# Altium footprint library Package_CSP.PcbLib: 127 footprints (part 1 of 8)
Each footprint in its own frame and in the unit in brackets; x right, y up, seen from the top. Pads: shape width x height; smd on the part's side, far side on the other; paste and mask are expansions set on the pad; w line width, h text height; cw(c..) or ccw(c..) is an arc to the next point about the centre after c.
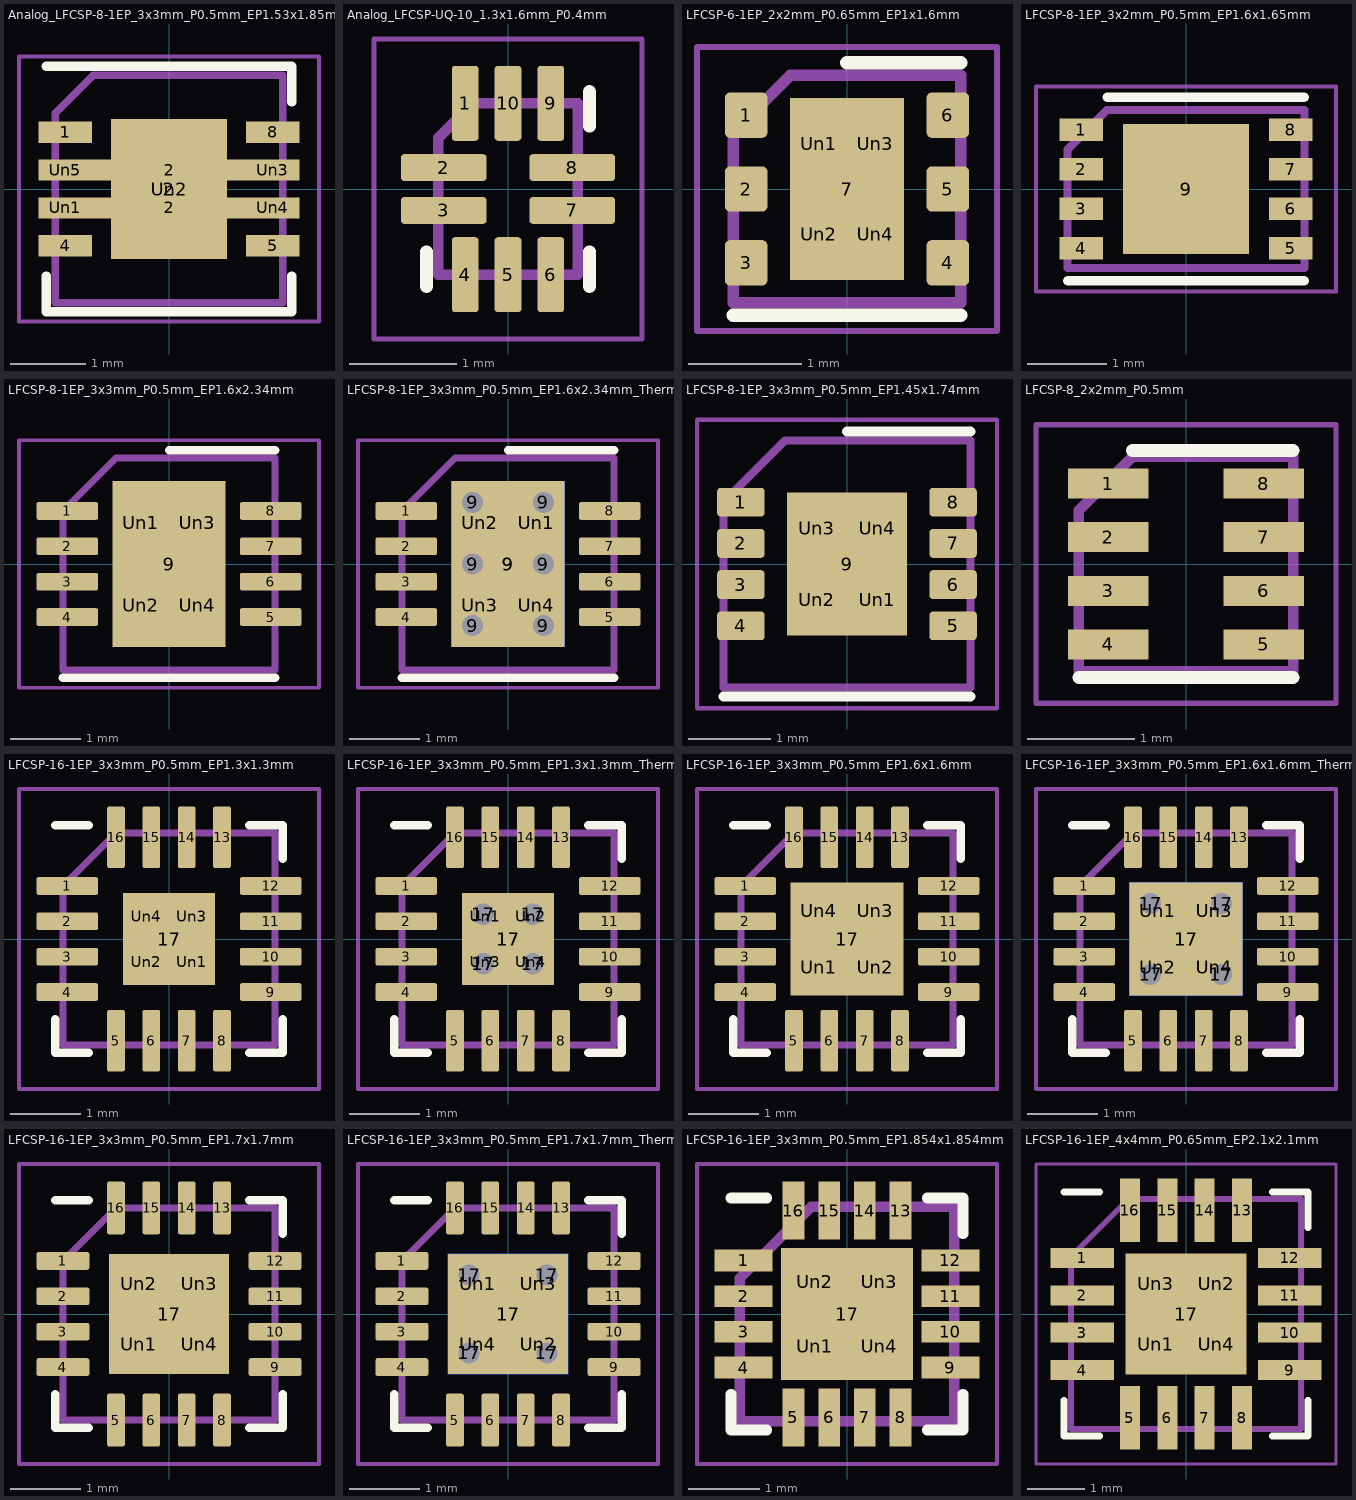
[diagram p0: the footprints below, top view; thin cyan lines are the x and y axes]

## Analog_LFCSP-8-1EP_3x3mm_P0.5mm_EP1.53x1.85mm [mm]
pads (12):
  rect 0.71x0.28 smd: 1(-1.37,0.75) 4(-1.37,-0.75) 5(1.37,-0.75) 8(1.37,0.75)
  rect 3.45x0.28 smd: 2(0,-0.25) 2(0,0.25)
  rect 1.53x1.85 smd: 2(0,0)
  rect 0.71x0.28 on Top Paste: Un1(-1.37,-0.25) Un3(1.37,0.25) Un4(1.37,-0.25) Un5(-1.37,0.25)
  rect 1.2x1.55 on Top Paste: Un2(0,0)
F.SilkS:
  lines w0.12: -1.62,-1.15 -1.62,-1.62 1.62,-1.62 1.62,-1.15 ; -1.62,1.62 1.62,1.62 1.62,1.15
F.CrtYd:
  lines w0.05: -1.98,-1.75 -1.98,1.75 1.98,1.75 1.98,-1.75 -1.98,-1.75
F.Fab:
  lines w0.1: -1.5,-1.5 -1.5,1 -1,1.5 1.5,1.5 1.5,-1.5 -1.5,-1.5
  text "'.Designator'" at -2.878,-0.633 h0.7

## Analog_LFCSP-UQ-10_1.3x1.6mm_P0.4mm [mm]
pads (10):
  rrect25% 0.25x0.7 smd: 1(-0.4,0.8) 4(-0.4,-0.8) 5(0,-0.8) 6(0.4,-0.8) 9(0.4,0.8) 10(0,0.8)
  rrect25% 0.8x0.25 smd: 2(-0.6,0.2) 3(-0.6,-0.2) 7(0.6,-0.2) 8(0.6,0.2)
F.SilkS:
  lines w0.12: -0.76,-0.91 -0.76,-0.585 ; 0.76,-0.91 0.76,-0.585 ; 0.76,0.585 0.76,0.91
F.CrtYd:
  lines w0.05: -1.25,-1.4 -1.25,1.4 1.25,1.4 1.25,-1.4 -1.25,-1.4
F.Fab:
  lines w0.1: -0.65,-0.8 0.65,-0.8 0.65,0.8 -0.325,0.8 -0.65,0.475 -0.65,-0.8
  text "'.Designator'" at 0.336,-1.619 h0.4

## LFCSP-6-1EP_2x2mm_P0.65mm_EP1x1.6mm [mm]
pads (11):
  rrect25% 0.375x0.4 smd: 1(-0.887,0.65) 2(-0.887,0) 3(-0.887,-0.65) 4(0.887,-0.65) 5(0.887,0) 6(0.887,0.65)
  rect 1x1.6 smd: 7(0,0)
  rrect25% 0.4x0.64 on Top Paste: Un1(-0.25,0.4) Un2(-0.25,-0.4) Un3(0.25,0.4) Un4(0.25,-0.4)
F.SilkS:
  lines w0.12: -1,-1.11 1,-1.11 ; 0,1.11 1,1.11
F.CrtYd:
  lines w0.05: -1.32,-1.25 -1.32,1.25 1.32,1.25 1.32,-1.25 -1.32,-1.25
F.Fab:
  lines w0.1: -1,-1 1,-1 1,1 -0.5,1 -1,0.5 -1,-1
  text "'.Designator'" at -2.028,-0.425 h0.5

## LFCSP-8-1EP_3x2mm_P0.5mm_EP1.6x1.65mm [mm]
pads (9):
  rect 0.55x0.28 smd: 1(-1.325,0.75) 2(-1.325,0.25) 3(-1.325,-0.25) 4(-1.325,-0.75) 5(1.325,-0.75) 6(1.325,-0.25) 7(1.325,0.25) 8(1.325,0.75)
  rect 1.6x1.65 smd: 9(0,0)
F.SilkS:
  lines w0.12: -1.5,-1.16 1.5,-1.16 ; -1,1.16 1.5,1.16
F.CrtYd:
  lines w0.05: -1.9,-1.3 1.9,-1.3 1.9,1.3 -1.9,1.3 -1.9,-1.3
F.Fab:
  lines w0.1: -1.5,-1 -1.5,0.5 -1,1 1.5,1 1.5,-1 -1.5,-1
  text "'.Designator'" at -2.63,-0.546 h0.65

## LFCSP-8-1EP_3x3mm_P0.5mm_EP1.6x2.34mm [mm]
pads (13):
  rrect25% 0.875x0.25 smd: 1(-1.438,0.75) 2(-1.438,0.25) 3(-1.438,-0.25) 4(-1.438,-0.75) 5(1.438,-0.75) 6(1.438,-0.25) 7(1.438,0.25) 8(1.438,0.75)
  rect 1.6x2.34 smd: 9(0,0)
  rrect25% 0.64x0.94 on Top Paste: Un1(-0.4,0.585) Un2(-0.4,-0.585) Un3(0.4,0.585) Un4(0.4,-0.585)
F.SilkS:
  lines w0.12: -1.5,-1.61 1.5,-1.61 ; 0,1.61 1.5,1.61
F.CrtYd:
  lines w0.05: -2.12,-1.75 2.12,-1.75 2.12,1.75 -2.12,1.75 -2.12,-1.75
F.Fab:
  lines w0.1: -1.5,-1.5 1.5,-1.5 1.5,1.5 -0.75,1.5 -1.5,0.75 -1.5,-1.5
  text "'.Designator'" at -3.033,-0.628 h0.75

## LFCSP-8-1EP_3x3mm_P0.5mm_EP1.6x2.34mm_ThermalVias [mm]
pads (20):
  rrect25% 0.875x0.25 smd: 1(-1.438,0.75) 2(-1.438,0.25) 3(-1.438,-0.25) 4(-1.438,-0.75) 5(1.438,-0.75) 6(1.438,-0.25) 7(1.438,0.25) 8(1.438,0.75)
  round 0.6 hole 0.3: 9(-0.5,-0.87) 9(-0.5,0) 9(-0.5,0.87) 9(0.5,-0.87) 9(0.5,0) 9(0.5,0.87)
  rect 1.6x2.34 smd far side: 9(0,0)
  rect 1.6x2.34 smd: 9(0,0)
  rrect25% 0.69x1.01 on Top Paste: Un1(0.4,0.585) Un2(-0.4,0.585) Un3(-0.4,-0.585) Un4(0.4,-0.585)
F.SilkS:
  lines w0.12: -1.5,-1.61 1.5,-1.61 ; 0,1.61 1.5,1.61
F.CrtYd:
  lines w0.05: -2.12,-1.75 -2.12,1.75 2.12,1.75 2.12,-1.75 -2.12,-1.75
F.Fab:
  lines w0.1: -1.5,-1.5 -1.5,0.75 -0.75,1.5 1.5,1.5 1.5,-1.5 -1.5,-1.5
  text "'.Designator'" at -3.033,-0.628 h0.75

## LFCSP-8-1EP_3x3mm_P0.5mm_EP1.45x1.74mm [mm]
pads (13):
  rrect25% 0.575x0.35 smd: 1(-1.288,0.75) 2(-1.288,0.25) 3(-1.288,-0.25) 4(-1.288,-0.75) 5(1.288,-0.75) 6(1.288,-0.25) 7(1.288,0.25) 8(1.288,0.75)
  rect 1.45x1.74 smd: 9(0,0)
  rrect25% 0.58x0.7 on Top Paste: Un1(0.365,-0.435) Un2(-0.365,-0.435) Un3(-0.365,0.435) Un4(0.365,0.435)
F.SilkS:
  lines w0.12: -1.5,-1.61 1.5,-1.61 ; 0,1.61 1.5,1.61
F.CrtYd:
  lines w0.05: -1.82,-1.75 -1.82,1.75 1.82,1.75 1.82,-1.75 -1.82,-1.75
F.Fab:
  lines w0.1: -1.5,-1.5 1.5,-1.5 1.5,1.5 -0.75,1.5 -1.5,0.75 -1.5,-1.5
  text "'.Designator'" at -3.033,-0.628 h0.75

## LFCSP-8_2x2mm_P0.5mm [mm]
pads (8):
  rect 0.75x0.28 smd: 1(-0.725,0.75) 2(-0.725,0.25) 3(-0.725,-0.25) 4(-0.725,-0.75) 5(0.725,-0.75) 6(0.725,-0.25) 7(0.725,0.25) 8(0.725,0.75)
F.SilkS:
  lines w0.12: -1,-1.06 1,-1.06 ; -0.5,1.06 1,1.06
F.CrtYd:
  lines w0.05: -1.4,-1.3 1.4,-1.3 1.4,1.3 -1.4,1.3 -1.4,-1.3
F.Fab:
  lines w0.1: -1,-1 -1,0.5 -0.5,1 1,1 1,-1 -1,-1
  text "'.Designator'" at -4.047,-0.84 h1

## LFCSP-16-1EP_3x3mm_P0.5mm_EP1.3x1.3mm [mm]
pads (21):
  rrect25% 0.875x0.25 smd: 1(-1.438,0.75) 2(-1.438,0.25) 3(-1.438,-0.25) 4(-1.438,-0.75) 9(1.438,-0.75) 10(1.438,-0.25) 11(1.438,0.25) 12(1.438,0.75)
  rrect25% 0.25x0.875 smd: 5(-0.75,-1.438) 6(-0.25,-1.438) 7(0.25,-1.438) 8(0.75,-1.438) 13(0.75,1.438) 14(0.25,1.438) 15(-0.25,1.438) 16(-0.75,1.438)
  rect 1.3x1.3 smd: 17(0,0)
  rrect25% 0.52x0.52 on Top Paste: Un1(0.325,-0.325) Un2(-0.325,-0.325) Un3(0.325,0.325) Un4(-0.325,0.325)
F.SilkS:
  lines w0.12: -1.61,-1.135 -1.61,-1.61 -1.135,-1.61 ; -1.61,1.61 -1.135,1.61 ; 1.135,-1.61 1.61,-1.61 1.61,-1.135 ; 1.135,1.61 1.61,1.61 1.61,1.135
F.CrtYd:
  lines w0.05: -2.12,-2.12 -2.12,2.12 2.12,2.12 2.12,-2.12 -2.12,-2.12
F.Fab:
  lines w0.1: -1.5,-1.5 1.5,-1.5 1.5,1.5 -0.75,1.5 -1.5,0.75 -1.5,-1.5
  text "'.Designator'" at -3.033,-0.628 h0.75

## LFCSP-16-1EP_3x3mm_P0.5mm_EP1.3x1.3mm_ThermalVias [mm]
pads (26):
  rrect25% 0.875x0.25 smd: 1(-1.438,0.75) 2(-1.438,0.25) 3(-1.438,-0.25) 4(-1.438,-0.75) 9(1.438,-0.75) 10(1.438,-0.25) 11(1.438,0.25) 12(1.438,0.75)
  rrect25% 0.25x0.875 smd: 5(-0.75,-1.438) 6(-0.25,-1.438) 7(0.25,-1.438) 8(0.75,-1.438) 13(0.75,1.438) 14(0.25,1.438) 15(-0.25,1.438) 16(-0.75,1.438)
  round 0.6 hole 0.3: 17(-0.35,-0.35) 17(-0.35,0.35) 17(0.35,-0.35) 17(0.35,0.35)
  rect 1.3x1.3 smd: 17(0,0)
  rect 1.3x1.3 smd far side: 17(0,0)
  rrect25% 0.52x0.52 on Top Paste: Un1(-0.325,0.325) Un2(0.325,0.325) Un3(-0.325,-0.325) Un4(0.325,-0.325)
F.SilkS:
  lines w0.12: -1.61,-1.135 -1.61,-1.61 -1.135,-1.61 ; -1.61,1.61 -1.135,1.61 ; 1.135,-1.61 1.61,-1.61 1.61,-1.135 ; 1.135,1.61 1.61,1.61 1.61,1.135
F.CrtYd:
  lines w0.05: -2.12,-2.12 2.12,-2.12 2.12,2.12 -2.12,2.12 -2.12,-2.12
F.Fab:
  lines w0.1: -1.5,-1.5 -1.5,0.75 -0.75,1.5 1.5,1.5 1.5,-1.5 -1.5,-1.5
  text "'.Designator'" at -3.033,-0.628 h0.75

## LFCSP-16-1EP_3x3mm_P0.5mm_EP1.6x1.6mm [mm]
pads (21):
  rrect25% 0.875x0.25 smd: 1(-1.438,0.75) 2(-1.438,0.25) 3(-1.438,-0.25) 4(-1.438,-0.75) 9(1.438,-0.75) 10(1.438,-0.25) 11(1.438,0.25) 12(1.438,0.75)
  rrect25% 0.25x0.875 smd: 5(-0.75,-1.438) 6(-0.25,-1.438) 7(0.25,-1.438) 8(0.75,-1.438) 13(0.75,1.438) 14(0.25,1.438) 15(-0.25,1.438) 16(-0.75,1.438)
  rect 1.6x1.6 smd: 17(0,0)
  rrect25% 0.64x0.64 on Top Paste: Un1(-0.4,-0.4) Un2(0.4,-0.4) Un3(0.4,0.4) Un4(-0.4,0.4)
F.SilkS:
  lines w0.12: -1.61,-1.135 -1.61,-1.61 -1.135,-1.61 ; -1.61,1.61 -1.135,1.61 ; 1.135,-1.61 1.61,-1.61 1.61,-1.135 ; 1.135,1.61 1.61,1.61 1.61,1.135
F.CrtYd:
  lines w0.05: -2.12,-2.12 2.12,-2.12 2.12,2.12 -2.12,2.12 -2.12,-2.12
F.Fab:
  lines w0.1: -1.5,-1.5 1.5,-1.5 1.5,1.5 -0.75,1.5 -1.5,0.75 -1.5,-1.5
  text "'.Designator'" at -3.033,-0.628 h0.75

## LFCSP-16-1EP_3x3mm_P0.5mm_EP1.6x1.6mm_ThermalVias [mm]
pads (26):
  rrect25% 0.875x0.25 smd: 1(-1.438,0.75) 2(-1.438,0.25) 3(-1.438,-0.25) 4(-1.438,-0.75) 9(1.438,-0.75) 10(1.438,-0.25) 11(1.438,0.25) 12(1.438,0.75)
  rrect25% 0.25x0.875 smd: 5(-0.75,-1.438) 6(-0.25,-1.438) 7(0.25,-1.438) 8(0.75,-1.438) 13(0.75,1.438) 14(0.25,1.438) 15(-0.25,1.438) 16(-0.75,1.438)
  round 0.6 hole 0.3: 17(-0.5,-0.5) 17(-0.5,0.5) 17(0.5,-0.5) 17(0.5,0.5)
  rect 1.6x1.6 smd far side: 17(0,0)
  rect 1.6x1.6 smd: 17(0,0)
  rrect25% 0.69x0.69 on Top Paste: Un1(-0.4,0.4) Un2(-0.4,-0.4) Un3(0.4,0.4) Un4(0.4,-0.4)
F.SilkS:
  lines w0.12: -1.61,-1.135 -1.61,-1.61 -1.135,-1.61 ; -1.61,1.61 -1.135,1.61 ; 1.135,-1.61 1.61,-1.61 1.61,-1.135 ; 1.135,1.61 1.61,1.61 1.61,1.135
F.CrtYd:
  lines w0.05: -2.12,-2.12 -2.12,2.12 2.12,2.12 2.12,-2.12 -2.12,-2.12
F.Fab:
  lines w0.1: -1.5,-1.5 -1.5,0.75 -0.75,1.5 1.5,1.5 1.5,-1.5 -1.5,-1.5
  text "'.Designator'" at -3.033,-0.628 h0.75

## LFCSP-16-1EP_3x3mm_P0.5mm_EP1.7x1.7mm [mm]
pads (21):
  rrect25% 0.75x0.25 smd: 1(-1.5,0.75) 2(-1.5,0.25) 3(-1.5,-0.25) 4(-1.5,-0.75) 9(1.5,-0.75) 10(1.5,-0.25) 11(1.5,0.25) 12(1.5,0.75)
  rrect25% 0.25x0.75 smd: 5(-0.75,-1.5) 6(-0.25,-1.5) 7(0.25,-1.5) 8(0.75,-1.5) 13(0.75,1.5) 14(0.25,1.5) 15(-0.25,1.5) 16(-0.75,1.5)
  rect 1.7x1.7 smd: 17(0,0)
  rrect25% 0.69x0.69 on Top Paste: Un1(-0.425,-0.425) Un2(-0.425,0.425) Un3(0.425,0.425) Un4(0.425,-0.425)
F.SilkS:
  lines w0.12: -1.61,-1.135 -1.61,-1.61 -1.135,-1.61 ; -1.61,1.61 -1.135,1.61 ; 1.135,-1.61 1.61,-1.61 1.61,-1.135 ; 1.135,1.61 1.61,1.61 1.61,1.135
F.CrtYd:
  lines w0.05: -2.12,-2.12 -2.12,2.12 2.12,2.12 2.12,-2.12 -2.12,-2.12
F.Fab:
  lines w0.1: -1.5,-1.5 -1.5,0.75 -0.75,1.5 1.5,1.5 1.5,-1.5 -1.5,-1.5
  text "'.Designator'" at -3.033,-0.628 h0.75

## LFCSP-16-1EP_3x3mm_P0.5mm_EP1.7x1.7mm_ThermalVias [mm]
pads (26):
  rrect25% 0.75x0.25 smd: 1(-1.5,0.75) 2(-1.5,0.25) 3(-1.5,-0.25) 4(-1.5,-0.75) 9(1.5,-0.75) 10(1.5,-0.25) 11(1.5,0.25) 12(1.5,0.75)
  rrect25% 0.25x0.75 smd: 5(-0.75,-1.5) 6(-0.25,-1.5) 7(0.25,-1.5) 8(0.75,-1.5) 13(0.75,1.5) 14(0.25,1.5) 15(-0.25,1.5) 16(-0.75,1.5)
  round 0.6 hole 0.3: 17(-0.55,-0.55) 17(-0.55,0.55) 17(0.55,-0.55) 17(0.55,0.55)
  rect 1.7x1.7 smd far side: 17(0,0)
  rect 1.7x1.7 smd: 17(0,0)
  rrect25% 0.74x0.74 on Top Paste: Un1(-0.425,0.425) Un2(0.425,-0.425) Un3(0.425,0.425) Un4(-0.425,-0.425)
F.SilkS:
  lines w0.12: -1.61,-1.135 -1.61,-1.61 -1.135,-1.61 ; -1.61,1.61 -1.135,1.61 ; 1.135,-1.61 1.61,-1.61 1.61,-1.135 ; 1.135,1.61 1.61,1.61 1.61,1.135
F.CrtYd:
  lines w0.05: -2.12,-2.12 2.12,-2.12 2.12,2.12 -2.12,2.12 -2.12,-2.12
F.Fab:
  lines w0.1: -1.5,-1.5 1.5,-1.5 1.5,1.5 -0.75,1.5 -1.5,0.75 -1.5,-1.5
  text "'.Designator'" at -3.033,-0.628 h0.75

## LFCSP-16-1EP_3x3mm_P0.5mm_EP1.854x1.854mm [mm]
pads (21):
  rect 0.813x0.305 smd: 1(-1.448,0.75) 2(-1.448,0.25) 3(-1.448,-0.25) 4(-1.448,-0.75) 9(1.448,-0.75) 10(1.448,-0.25) 11(1.448,0.25) 12(1.448,0.75)
  rect 0.305x0.813 smd: 5(-0.75,-1.448) 6(-0.25,-1.448) 7(0.25,-1.448) 8(0.75,-1.448) 13(0.75,1.448) 14(0.25,1.448) 15(-0.25,1.448) 16(-0.75,1.448)
  rect 1.854x1.854 smd: 17(0,0)
  rect 0.7x0.7 on Top Paste: Un1(-0.45,-0.45) Un2(-0.45,0.45) Un3(0.45,0.45) Un4(0.45,-0.45)
F.SilkS:
  lines w0.15: -1.625,-1.125 -1.625,-1.625 -1.125,-1.625 ; -1.625,1.625 -1.125,1.625 ; 1.125,-1.625 1.625,-1.625 1.625,-1.125 ; 1.125,1.625 1.625,1.625 1.625,1.125
F.CrtYd:
  lines w0.05: -2.1,-2.1 2.1,-2.1 2.1,2.1 -2.1,2.1 -2.1,-2.1
F.Fab:
  lines w0.15: -1.5,-1.5 -1.5,0.5 -0.5,1.5 1.5,1.5 1.5,-1.5 -1.5,-1.5
  text "'.Designator'" at -2.878,-0.633 h0.7

## LFCSP-16-1EP_4x4mm_P0.65mm_EP2.1x2.1mm [mm]
pads (21):
  rect 1.105x0.35 smd: 1(-1.803,0.975) 2(-1.803,0.325) 3(-1.803,-0.325) 4(-1.803,-0.975) 9(1.803,-0.975) 10(1.803,-0.325) 11(1.803,0.325) 12(1.803,0.975)
  rect 0.35x1.105 smd: 5(-0.975,-1.803) 6(-0.325,-1.803) 7(0.325,-1.803) 8(0.975,-1.803) 13(0.975,1.803) 14(0.325,1.803) 15(-0.325,1.803) 16(-0.975,1.803)
  rect 2.1x2.1 smd: 17(0,0)
  rect 0.9x0.9 on Top Paste: Un1(-0.525,-0.525) Un2(0.525,0.525) Un3(-0.525,0.525) Un4(0.525,-0.525)
F.SilkS:
  lines w0.12: -2.12,-1.5 -2.12,-2.12 -1.5,-2.12 ; -2.12,2.12 -1.5,2.12 ; 1.5,-2.12 2.12,-2.12 2.12,-1.5 ; 1.5,2.12 2.12,2.12 2.12,1.5
F.CrtYd:
  lines w0.05: -2.61,-2.61 2.61,-2.61 2.61,2.61 -2.61,2.61 -2.61,-2.61
F.Fab:
  lines w0.1: -2,-2 -2,1 -1,2 2,2 2,-2 -2,-2
  text "'.Designator'" at -4.047,-0.84 h1